# Altium footprint library XFL4020.PcbLib: 1 footprints
Each footprint in its own frame and in the unit in brackets; x right, y up, seen from the top. Pads: shape width x height; smd on the part's side, far side on the other; paste and mask are expansions set on the pad; w line width, h text height; cw(c..) or ccw(c..) is an arc to the next point about the centre after c.
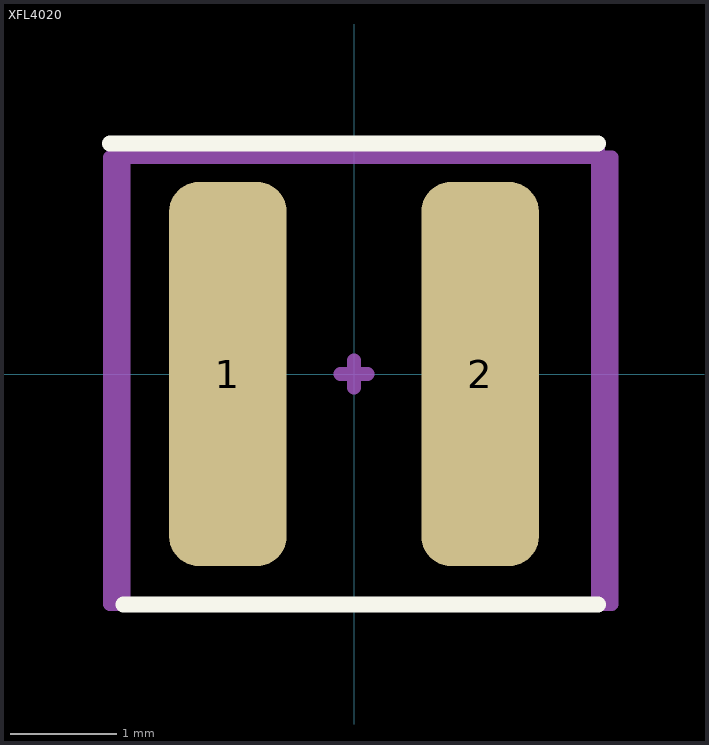
[diagram p0: the footprint, top view; thin cyan lines are the x and y axes]

## XFL4020 [mm]
pads (2):
  rrect50% 1.1x3.6 smd: 1(-1.181,0) 2(1.181,0)
Top Overlay:
  lines w0.152: -2.286,2.159 2.286,2.159 ; -2.159,-2.159 2.286,-2.159
Mechanical 13:
  lines w0.127: -2.159,-2.159 2.286,-2.159 2.286,2.159 -2.159,2.159 -2.159,-2.159
Mechanical 15:
  lines w0.127: -0.127,0 0.127,0 ; 0,-0.127 0,0.127 ; -2.286,-2.159 2.413,-2.159 2.413,2.032 -2.286,2.032 -2.286,-2.159
Mechanical 17:
  text "'.Designator'" at -2.032,-0.254 h0.38
3D body "User Library-XFL4020.STEP": height 2.12, standoff 0.02, extent -2.143,-2.163 2.157,2.137